# Altium schematic symbol library inductor-B82472P6472M000.SchLib: 1 symbol
Pins are listed as number, name and electrical type; pins without a type are passive.

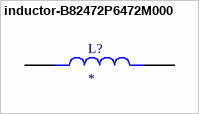
[diagram p0: symbol inductor-B82472P6472M000]

## inductor-B82472P6472M000
designator L?
Inductors from EPCOS include SMT Inductors, SMT Power Inductors, Transponder Coils, ISDN Transformers, xDSL Transformers, DC/DC Converters, RF Transformers and SMT Current Sense Transformers.
footprint IND_B82472P6472M000
pins: 1, 2